# EAGLE library part 74AHC125 (library dedicatedLib)
The 74AHC125 74AHCT125 provides four non-inverting buffer/line drivers with 3-state outputs. The 3-state outputs (nY) are controlled by the output enable input (nOE). A HIGH at nOE causes the outputs to assume a high-impedance OFF-state.
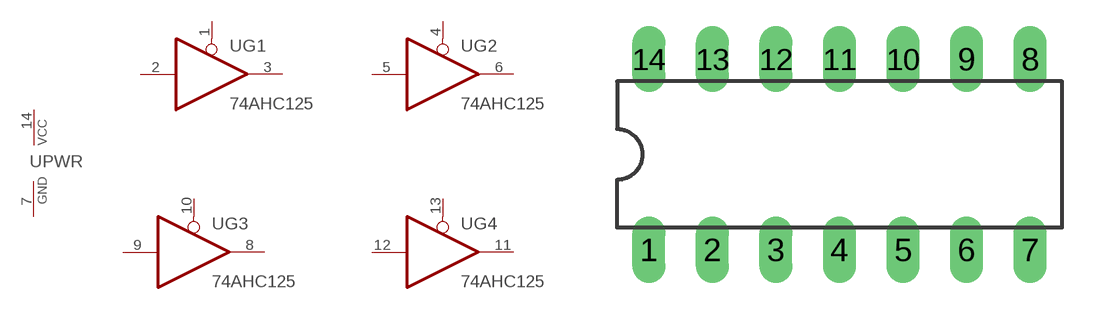
[diagram p2: symbol with the pads of DIP14; footprint DIP14]

Designator prefix -; gates PWR=PWRN G1=BUFFER G2=BUFFER G3=BUFFER G4=BUFFER

## 74AHC125  [DIP14]
1  G1:OE  in
2  G1:I  in
3  G1:O  hiz
4  G2:OE  in
5  G2:I  in
6  G2:O  hiz
7  PWR:GND  pwr
8  G3:O  hiz
9  G3:I  in
10  G3:OE  in
11  G4:O  hiz
12  G4:I  in
13  G4:OE  in
14  PWR:VCC  pwr

## Footprint DIP14 (pad centres in mm)
drill 0.813 long: 1 -7.62,-3.81; 2 -5.08,-3.81; 3 -2.54,-3.81; 4 0,-3.81; 5 2.54,-3.81; 6 5.08,-3.81; 7 7.62,-3.81; 8 7.62,3.81; 9 5.08,3.81; 10 2.54,3.81; 11 0,3.81; 12 -2.54,3.81; 13 -5.08,3.81; 14 -7.62,3.81